# Altium footprint library S2B-PH-SM4-TB(LF)(SN).PcbLib: 1 footprints
Each footprint in its own frame and in the unit in brackets; x right, y up, seen from the top. Pads: shape width x height; smd on the part's side, far side on the other; paste and mask are expansions set on the pad; w line width, h text height; cw(c..) or ccw(c..) is an arc to the next point about the centre after c.
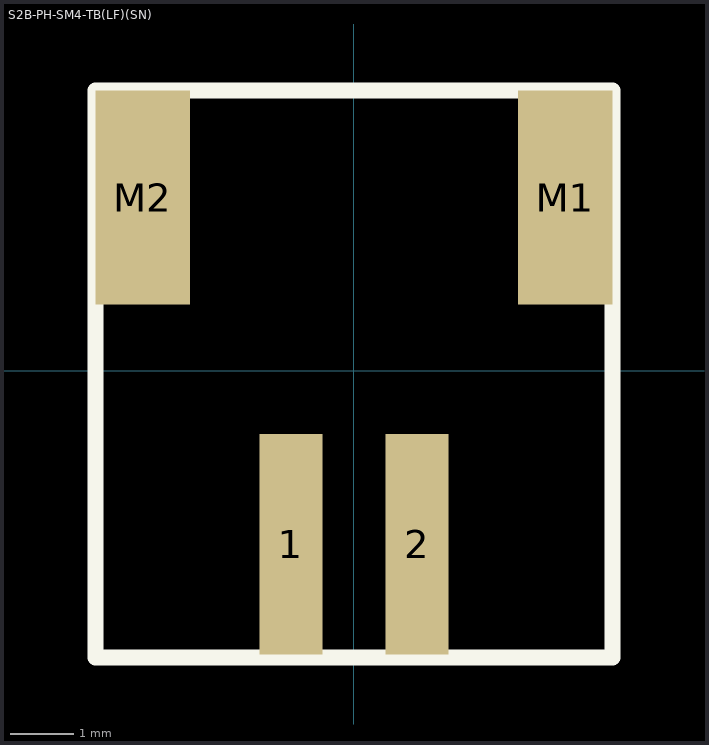
[diagram p0: the footprint, top view; thin cyan lines are the x and y axes]

## S2B-PH-SM4-TB(LF)(SN) [mm] "CONN HEADER PH SIDE 2POS 2MM SMD"
height 1.6
pads (4):
  rect 1x3.5 smd: 1(-1,-2.75) 2(1,-2.75)
  rect 1.5x3.4 smd: M1(3.35,2.75) M2(-3.35,2.75)
Top Overlay:
  lines w0.254: -4.1,-4.55 -4.1,4.45 4.1,4.45 4.1,-4.55 -4.1,-4.55
3D body "S2B-PH-SM4-TB.stp": height 5.6, standoff 0, extent -3.966,-4.39 3.934,4.21